# EAGLE library part RADIO-RFM70 (library p.peter-ics)
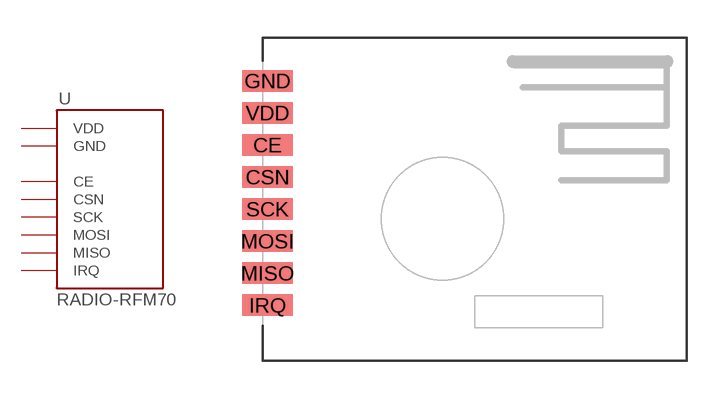
[diagram p2: symbol with the pads of RADIO-RFM70-SMD; footprint RADIO-RFM70-SMD]

Designator prefix -

## RADIO-RFM70SMD  [RADIO-RFM70-SMD]
CE  CE
CSN  CSN
GND  GND  pwr
IRQ  IRQ
MISO  MISO
MOSI  MOSI
SCK  SCK
VDD  VDD  pwr

## Footprint RADIO-RFM70-SMD (pad centres in mm)
smd 2 x 0.85: CE -8.2,2.16; CSN -8.2,0.89; GND -8.2,4.7; IRQ -8.2,-4.19; MISO -8.2,-2.92; MOSI -8.2,-1.65; SCK -8.2,-0.38; VDD -8.2,3.43